# EAGLE library part OPA2325IDR (library NIPCB)
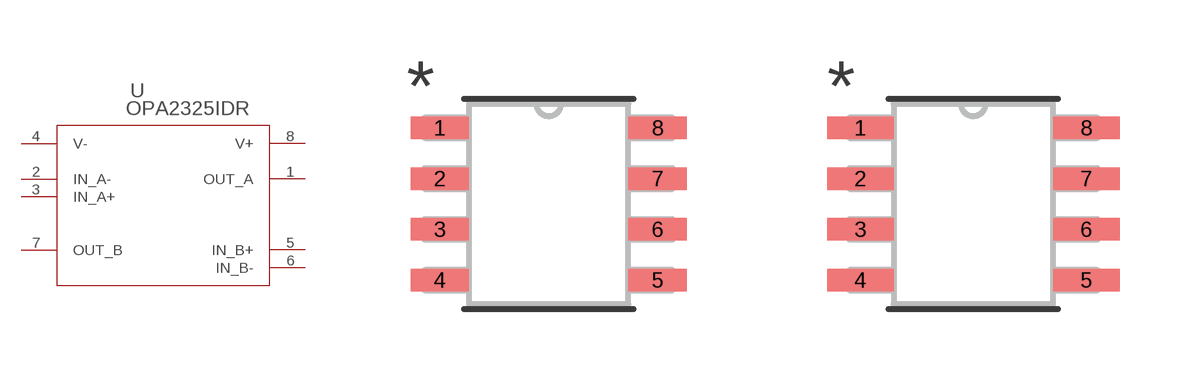
[diagram p1: symbol with the pads of D8_TEX; footprints D8_TEX, D8_TEX-M]

Designator prefix U

## OPA2325IDRD8_TEX (COPYRIGHT: Copyright (C) 2024 Ultra Librarian. All rights reserved.; MANUFACTURER_PART_NUMBER: OPA2325IDR; MFR_NAME: Texas Instruments)  [D8_TEX]
1  OUT_A  out
2  IN_A-  pas
3  IN_A+  in
4  V-  pas
5  IN_B+  in
6  IN_B-  pas
7  OUT_B  out
8  V+  pwr

## OPA2325IDRD8_TEX-M (COPYRIGHT: Copyright (C) 2024 Ultra Librarian. All rights reserved.; MANUFACTURER_PART_NUMBER: OPA2325IDR; MFR_NAME: Texas Instruments)  [D8_TEX-M]
Pads as for D8_TEX

## OPA2325IDRD8_TEX-L (COPYRIGHT: Copyright (C) 2024 Ultra Librarian. All rights reserved.; MANUFACTURER_PART_NUMBER: OPA2325IDR; MFR_NAME: Texas Instruments)  [D8_TEX-L]
Pads as for D8_TEX

## Footprint D8_TEX (pad centres in mm)
smd 1.46 x 0.559: 1 -2.724,1.905; 2 -2.724,0.635; 3 -2.724,-0.635; 4 -2.724,-1.905; 5 2.724,-1.905; 6 2.724,-0.635; 7 2.724,0.635; 8 2.724,1.905

## Footprint D8_TEX-M (pad centres in mm)
smd 1.664 x 0.559: 1 -2.826,1.905; 2 -2.826,0.635; 3 -2.826,-0.635; 4 -2.826,-1.905; 5 2.826,-1.905; 6 2.826,-0.635; 7 2.826,0.635; 8 2.826,1.905

## Footprint D8_TEX-L (pad centres in mm)
smd 1.257 x 0.508: 1 -2.623,1.905; 2 -2.623,0.635; 3 -2.623,-0.635; 4 -2.623,-1.905; 5 2.623,-1.905; 6 2.623,-0.635; 7 2.623,0.635; 8 2.623,1.905